# Altium integrated library GRM155R71E752KA01D.IntLib: 1 symbol
Pins are listed as number, name and electrical type; pins without a type are passive.

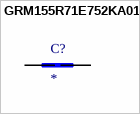
[diagram p0: symbol GRM155R71E752KA01D]

## GRM155R71E752KA01D
designator C?
CAP 0.0075UF 25VDC X7R 10% SMD 0402 PAPER TAPE; MP: GRM155R71E752KA01D; Package: None; Price: None; Value: *; Availability: Unavailable
footprint INDC1005X45
pins: 1, 2